# Altium footprint library AUB-81.PcbLib: 1 footprints
Each footprint in its own frame and in the unit in brackets; x right, y up, seen from the top. Pads: shape width x height; smd on the part's side, far side on the other; paste and mask are expansions set on the pad; w line width, h text height; cw(c..) or ccw(c..) is an arc to the next point about the centre after c.
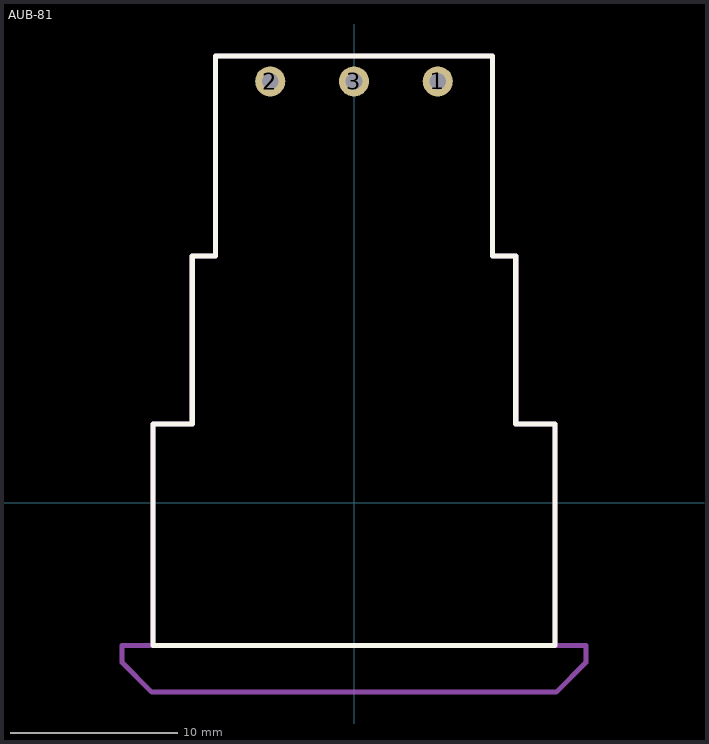
[diagram p0: the footprint, top view; thin cyan lines are the x and y axes]

## AUB-81 [mm]
pads (3):
  round 1.8 hole 1: 1(5,25.146) 2(-5,25.146) 3(0,25.146)
Top Overlay:
  lines w0.3: -12,-8.509 12,-8.509 12,4.699 9.652,4.699 9.652,14.732 8.255,14.732 8.255,26.67 -8.255,26.67 -8.255,14.732 -9.652,14.732 -9.652,4.699 -12,4.699 -12,-8.509
Mechanical 13:
  lines w0.3: -12,-8.509 -13.843,-8.509 -13.843,-9.525 -12.065,-11.303 12.065,-11.303 13.843,-9.525 13.843,-8.509 12,-8.509 ; -12,-8.509 -12,4.699 -9.652,4.699 -9.652,14.732 -8.255,14.732 -8.255,26.67 8.255,26.67 8.255,14.732 9.652,14.732 9.652,4.699 12,4.699 12,-8.509 ; -12,-8.509 12,-8.509
  text ".Designator" at -2.6,-3.98 h2.5
3D body: height 37.92, standoff -1.63, extent -13.75,-15.89 13.75,25.96